# Altium footprint library KIP_2.PcbLib: 9 footprints
Each footprint in its own frame and in the unit in brackets; x right, y up, seen from the top. Pads: shape width x height; smd on the part's side, far side on the other; paste and mask are expansions set on the pad; w line width, h text height; cw(c..) or ccw(c..) is an arc to the next point about the centre after c.
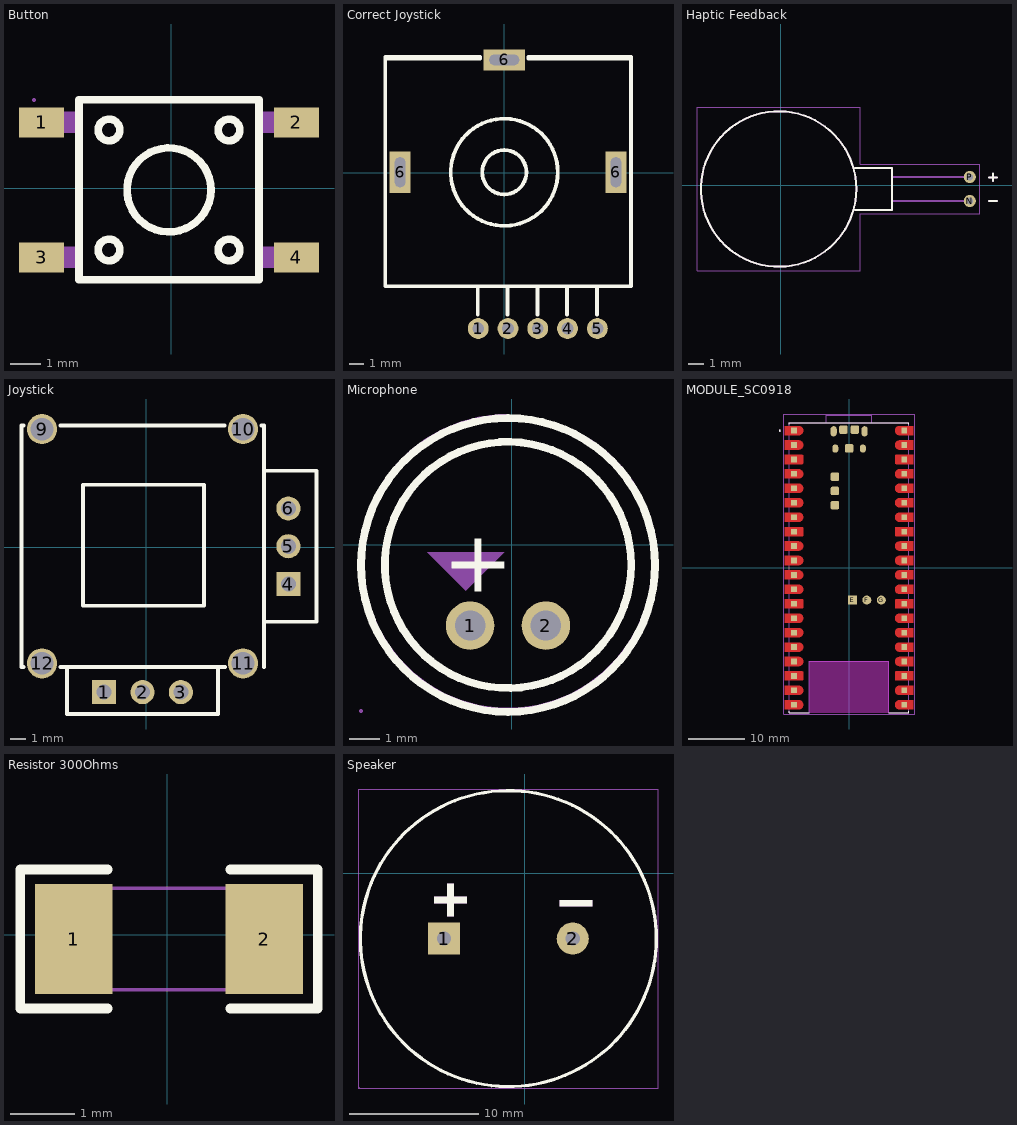
[diagram p0: the footprints below, top view; thin cyan lines are the x and y axes]

## Button [mm]
pads (4):
  rect 1.5x1 smd: 1(-4.33,2.202) 2(4.17,2.202) 3(-4.33,-2.298) 4(4.17,-2.298)
Top Overlay:
  circle w0.254: c-0.08,-0.048 r1.4
  circle w0.254: c1.92,1.952 r0.361
  circle w0.254: c-2.08,1.952 r0.361
  circle w0.254: c-2.08,-2.048 r0.361
  circle w0.254: c1.92,-2.048 r0.361
  lines w0.254: -3.08,-3.048 2.92,-3.048 2.92,2.952 -3.08,2.952 -3.08,-3.048
Mechanical 15:
  region: -4.52,2.952 -4.52,2.927 -4.555,2.892 -4.605,2.892 -4.64,2.927 -4.64,2.952 -4.64,2.977 -4.605,3.012 -4.555,3.012 -4.52,2.977 -4.52,2.952
  region: -3.79,1.852 -3.79,2.552 -3.07,2.552 -3.07,1.852
  region: -4.58,1.852 -4.58,2.552 -3.78,2.552 -3.78,1.852
  region: -3.79,-2.648 -3.79,-1.948 -3.07,-1.948 -3.07,-2.648
  region: -4.58,-2.648 -4.58,-1.948 -3.78,-1.948 -3.78,-2.648
  region: 2.91,-2.648 2.91,-1.948 3.63,-1.948 3.63,-2.648
  region: 3.62,-2.648 3.62,-1.948 4.42,-1.948 4.42,-2.648
  region: 2.91,1.852 2.91,2.552 3.63,2.552 3.63,1.852
  region: 3.62,1.852 3.62,2.552 4.42,2.552 4.42,1.852
  lines w0.051: -3.08,-3.048 2.92,-3.048 2.92,2.952 -3.08,2.952 -3.08,-3.048

## Correct Joystick [mm]
pads (8):
  round 1.4 hole 0.8: 1(-1.751,-10.476) 2(0.249,-10.476) 3(2.249,-10.476) 4(4.249,-10.476) 5(6.249,-10.476)
  rect 1.4x2.8 hole 0.7 slot 2 at 90 deg: 6(-7.001,0.024) 6(7.499,0.024)
  rect 2.8x1.4 hole 0.7 slot 2 at 0 deg: 6(-0.001,7.574)
Top Overlay:
  circle w0.254: c-0.001,0.024 r1.486
  circle w0.254: c-0.001,0.024 r3.597
  lines w0.254: -8.001,7.644 -1.632,7.644 ; -1.779,-9.545 -1.779,-7.626 ; -1.632,7.774 -8.001,7.774 -8.001,-7.626 8.508,-7.626 ; 0.221,-9.545 0.221,-7.626 ; 1.63,7.644 8.499,7.644 ; 1.63,7.774 8.508,7.774 8.508,-7.596 ; 2.221,-9.545 2.221,-7.626 ; 4.221,-9.545 4.221,-7.626 ; 6.221,-9.545 6.221,-7.626

## Haptic Feedback [mm]
pads (2):
  round 0.78 hole 0.43: N(12.173,-1.026) P(12.173,0.518)
Top Overlay:
  circle w0.127: c-0.127,-0.254 r5
  lines w0.127: 4.773,-1.604 7.173,-1.604 7.173,1.096 4.773,1.096 ; 13.423,-1.028 13.923,-1.028 ; 13.423,0.496 13.923,0.496 ; 13.673,0.246 13.673,0.746
Mechanical 13:
  circle w0.127: c-0.127,-0.254 r5
  lines w0.127: 4.773,-1.604 7.173,-1.604 7.173,-1.026 ; 4.773,1.096 7.173,1.096 7.173,0.518 ; 12.173,-1.026 7.173,-1.026 ; 12.173,0.518 7.173,0.518 ; 13.423,-1.028 13.923,-1.028 ; 13.423,0.496 13.923,0.496 ; 13.673,0.246 13.673,0.746 ; 7.173,-1.026 7.173,0.518
Mechanical 15:
  lines w0.05: -5.377,-5.504 -5.377,4.996 5.123,4.996 5.123,1.346 12.813,1.346 12.813,-1.854 5.123,-1.854 5.123,-5.504 -5.377,-5.504
3D body "HD-EMC1003-2-LW15-R.STEP": height 2.7, standoff 0, extent -5.127,-5.254 21.217,4.746

## Joystick [mm]
pads (10):
  rect 1.6x1.6 hole 1: 1(-2.795,-9.599) 4(9.395,-2.449)
  round 1.6 hole 1: 2(-0.255,-9.599) 3(2.285,-9.599) 5(9.395,0.051) 6(9.395,2.551)
  round 2 hole 1.5: 9(-6.905,7.801) 10(6.395,7.801) 11(6.395,-7.699) 12(-6.905,-7.699)
Top Overlay:
  lines w0.254: -8.255,-4.199 -8.255,-7.95 -8.11,-7.95 ; -8.255,-4.074 -8.255,4.301 -8.255,8.051 -8.11,8.051 ; -8.255,-2.199 -8.255,2.301 ; -5.7,-7.95 5.19,-7.95 ; -5.7,8.051 5.19,8.051 ; -5.255,-7.95 -5.255,-11.049 4.745,-11.049 4.745,-7.95 ; 7.6,8.051 7.773,8.051 7.773,-7.95 ; 7.773,-4.949 11.246,-4.949 11.246,5.051 7.773,5.051 ; -4.192,-3.886 -4.192,4.115 3.809,4.115 3.809,-3.886 -4.192,-3.886

## Microphone [mm]
pads (2):
  round 1.6 hole 1: 1(-1.38,-2.67) 2(1.12,-2.67)
Top Overlay:
  circle w0.254: c-0.13,-0.67 r4.85
  circle w0.254: c-0.13,-0.67 r4.064
  text "+" at -2.289,-1.559 h2.03
Mechanical 6:
  region: -0.257,-0.257 -2.797,-0.257 -1.527,-1.527
  region: 4.62,-0.638 4.61,-0.327 4.529,0.289 4.368,0.889 4.13,1.463 3.819,2.001 3.441,2.494 3.002,2.933 2.509,3.311 1.971,3.622 1.397,3.86 0.797,4.021 0.181,4.102 -0.13,4.112 -0.13,4.262 -0.08,4.262 0.241,4.262 0.878,4.178 1.498,4.012 2.092,3.766 2.648,3.445 3.158,3.054 3.612,2.6 4.003,2.09 4.324,1.534 4.57,0.94 4.736,0.32 4.82,-0.317 4.82,-0.638
  region: -0.13,4.112 -0.441,4.102 -1.057,4.021 -1.657,3.86 -2.231,3.622 -2.769,3.312 -3.262,2.933 -3.701,2.494 -4.079,2.001 -4.39,1.463 -4.628,0.889 -4.789,0.289 -4.87,-0.327 -4.88,-0.638 -5.03,-0.638 -5.03,-0.588 -5.03,-0.267 -4.946,0.37 -4.78,0.991 -4.534,1.584 -4.213,2.14 -3.822,2.65 -3.368,3.104 -2.858,3.495 -2.302,3.816 -1.708,4.062 -1.088,4.228 -0.451,4.312 -0.13,4.312
  region: -4.88,-0.638 -4.87,-0.949 -4.789,-1.565 -4.628,-2.165 -4.39,-2.739 -4.08,-3.277 -3.701,-3.77 -3.262,-4.209 -2.769,-4.587 -2.231,-4.898 -1.657,-5.136 -1.057,-5.297 -0.441,-5.378 -0.13,-5.388 -0.13,-5.538 -0.18,-5.538 -0.501,-5.538 -1.138,-5.454 -1.758,-5.288 -2.352,-5.042 -2.908,-4.721 -3.418,-4.33 -3.872,-3.876 -4.263,-3.366 -4.584,-2.81 -4.83,-2.216 -4.996,-1.596 -5.08,-0.959 -5.08,-0.638
  region: -0.13,-5.388 0.181,-5.378 0.797,-5.297 1.397,-5.136 1.971,-4.898 2.509,-4.588 3.002,-4.209 3.441,-3.77 3.819,-3.277 4.13,-2.739 4.368,-2.165 4.529,-1.565 4.61,-0.949 4.62,-0.638 4.77,-0.638 4.77,-0.688 4.77,-1.009 4.686,-1.646 4.52,-2.266 4.274,-2.86 3.953,-3.416 3.562,-3.926 3.108,-4.38 2.598,-4.771 2.042,-5.092 1.448,-5.338 0.828,-5.504 0.191,-5.588 -0.13,-5.588
Mechanical 15:
  region: -4.92,-5.488 -4.92,-5.513 -4.955,-5.548 -5.005,-5.548 -5.04,-5.513 -5.04,-5.488 -5.04,-5.463 -5.005,-5.428 -4.955,-5.428 -4.92,-5.463 -4.92,-5.488
  region: -0.98,-2.67 -0.98,-2.75 -1.041,-2.897 -1.153,-3.009 -1.3,-3.07 -1.459,-3.07 -1.606,-3.009 -1.719,-2.897 -1.78,-2.75 -1.78,-2.67 -1.78,-2.59 -1.719,-2.443 -1.606,-2.331 -1.459,-2.27 -1.3,-2.27 -1.153,-2.331 -1.041,-2.443 -0.98,-2.59 -0.98,-2.67
  region: 1.52,-2.67 1.52,-2.75 1.459,-2.897 1.346,-3.009 1.199,-3.07 1.04,-3.07 0.893,-3.009 0.781,-2.897 0.72,-2.75 0.72,-2.67 0.72,-2.59 0.781,-2.443 0.893,-2.331 1.04,-2.27 1.199,-2.27 1.346,-2.331 1.459,-2.443 1.52,-2.59 1.52,-2.67
  lines w0.051: -4.98,-0.638 cw(c-0.13,-0.638) 4.72,-0.638 cw(c-0.13,-0.638) -4.98,-0.638

## MODULE_SC0918 [mm]
height 3.6
pads (53):
  rect 1x1 smd paste-1 mask+0: 1(-9.69,24.13) 2(-9.69,21.59) 3(-9.69,19.05) 4(-9.69,16.51) 5(-9.69,13.97) 6(-9.69,11.43) 7(-9.69,8.89) 8(-9.69,6.35) 9(-9.69,3.81) 10(-9.69,1.27) 11(-9.69,-1.27) 12(-9.69,-3.81) 13(-9.69,-6.35) 14(-9.69,-8.89) 15(-9.69,-11.43) 16(-9.69,-13.97) 17(-9.69,-16.51) 18(-9.69,-19.05) 19(-9.69,-21.59) 20(-9.69,-24.13) 21(9.69,-24.13) 22(9.69,-21.59) 23(9.69,-19.05) 24(9.69,-16.51) 25(9.69,-13.97) 26(9.69,-11.43) 27(9.69,-8.89) 28(9.69,-6.35) 29(9.69,-3.81) 30(9.69,-1.27) 31(9.69,1.27) 32(9.69,3.81) 33(9.69,6.35) 34(9.69,8.89) 35(9.69,11.43) 36(9.69,13.97) 37(9.69,16.51) 38(9.69,19.05) 39(9.69,21.59) 40(9.69,24.13)
  oval 1.1x1.8 smd: A(-2.725,24) B(2.725,24)
  oval 1.05x1.45 smd: C(-2.425,20.97) D(2.425,20.97)
  rect 1.575x1.575 smd: E(0.584,-5.7)
  round 1.575 smd: F(3.124,-5.7) G(5.664,-5.7)
  rrect40% 1.5x1.5 smd: TP1(0,21) TP2(1,24.3) TP3(-1,24.3) TP4(-2.5,16) TP5(-2.5,13.5) TP6(-2.5,11)
Top Layer:
  drawing of 40 lines, arcs and shapes, not listed
Top Overlay:
  circle w0.2: c-12.19,24.13 r0.1
  lines w0.127: -10.5,-25.25 -10.5,-25.5 -7,-25.5 ; -10.5,25.25 -10.5,25.5 10.5,25.5 10.5,25.25 ; 7,-25.5 10.5,-25.5 10.5,-25.25
Top Paste:
  drawing of 40 lines, arcs and shapes, not listed
Top Solder:
  drawing of 40 lines, arcs and shapes, not listed
Keep-Out Layer:
  board cut-out: 7,-25.5 -7,-25.5 -7,-16.5 7,-16.5
Mechanical 13:
  circle w0.2: c-12.19,24.13 r0.1
  lines w0.127: -4,25.5 4,25.5 ; -4,25.5 -4,26.8 4,26.8 4,25.5 ; -4,25.5 -10.5,25.5 -10.5,-25.5 -7,-25.5 -7,-16.5 7,-16.5 7,-25.5 10.5,-25.5 10.5,25.5 4,25.5
Mechanical 15:
  lines w0.05: -11.54,-25.75 11.54,-25.75 11.54,27.05 -11.54,27.05 -11.54,-25.75
3D body "step_temp.STEP": height 3.6, standoff 0, extent -10.5,-25.5 10.5,26.8

## PCBComponent_1 [mm]

## Resistor 300Ohms [mm]
pads (2):
  rect 1.208x1.701 smd paste-100 mask+0.051: 1(-1.454,-0.064) 2(1.504,-0.064)
Top Overlay:
  lines w0.152: -0.926,-1.143 -2.286,-1.143 -2.286,1.015 -0.926,1.015 ; 0.976,-1.143 2.336,-1.143 2.336,1.015 0.976,1.015
Top Paste:
  region: 0.9,-0.814 0.9,-0.453 1,-0.353 1.211,-0.353 1.311,-0.253 1.311,0.125 1.211,0.225 1,0.225 0.9,0.325 0.9,0.687 1,0.787 2.008,0.787 2.108,0.687 2.108,-0.814 2.008,-0.914 1,-0.914
  region: -0.85,-0.814 -0.85,-0.453 -0.95,-0.353 -1.16,-0.353 -1.26,-0.253 -1.26,0.125 -1.16,0.225 -0.95,0.225 -0.85,0.325 -0.85,0.687 -0.95,0.787 -1.957,0.787 -2.057,0.687 -2.057,-0.814 -1.957,-0.914 -0.95,-0.914
Mechanical 15:
  region: -1.465,-0.851 -1.465,-0.876 -1.5,-0.911 -1.55,-0.911 -1.585,-0.876 -1.585,-0.851 -1.585,-0.826 -1.55,-0.791 -1.5,-0.791 -1.465,-0.826 -1.465,-0.851
  region: -1.525,-0.851 -1.525,0.724 -1.075,0.724 -1.075,-0.851
  region: 1.575,-0.851 1.575,0.724 1.125,0.724 1.125,-0.851
  lines w0.051: -1.525,-0.851 -1.525,0.724 1.575,0.724 1.575,-0.851 -1.525,-0.851

## Speaker [mm]
pads (2):
  rect 2.5x2.5 hole 1.1: 1(-6.267,-5.077)
  round 2.5 hole 1.1: 2(3.733,-5.077)
Top Overlay:
  circle w0.254: c-1.267,-5.077 r11.5
  region: -7.017,-1.827 -4.517,-1.827 -4.517,-2.327 -7.017,-2.327
  region: -6.017,-3.327 -6.017,-0.827 -5.517,-0.827 -5.517,-3.327
  region: 2.733,-2.077 5.233,-2.077 5.233,-2.577 2.733,-2.577
Mechanical 6:
  region: -7.017,-1.827 -4.517,-1.827 -4.517,-2.327 -7.017,-2.327
  region: -6.017,-3.327 -6.017,-0.827 -5.517,-0.827 -5.517,-3.327
  region: 2.733,-2.077 5.233,-2.077 5.233,-2.577 2.733,-2.577
Mechanical 15:
  region: 4.183,-5.077 4.183,-5.166 4.115,-5.332 3.988,-5.458 3.823,-5.527 3.644,-5.527 3.478,-5.458 3.352,-5.332 3.283,-5.166 3.283,-5.077 3.283,-4.987 3.352,-4.822 3.478,-4.695 3.644,-4.627 3.823,-4.627 3.988,-4.695 4.115,-4.822 4.183,-4.987 4.183,-5.077
  region: -5.817,-5.077 -5.817,-5.166 -5.885,-5.332 -6.012,-5.458 -6.177,-5.527 -6.356,-5.527 -6.522,-5.458 -6.648,-5.332 -6.717,-5.166 -6.717,-5.077 -6.717,-4.987 -6.648,-4.822 -6.522,-4.695 -6.356,-4.627 -6.177,-4.627 -6.012,-4.695 -5.885,-4.822 -5.817,-4.987 -5.817,-5.077
  region: -12.834,-16.704 -12.834,-16.729 -12.869,-16.764 -12.919,-16.764 -12.954,-16.729 -12.954,-16.704 -12.954,-16.679 -12.919,-16.644 -12.869,-16.644 -12.834,-16.679 -12.834,-16.704
  lines w0.051: -12.894,-16.704 -12.894,6.55 10.36,6.55 10.36,-16.704 -12.894,-16.704